# Altium integrated library PCB_Project.IntLib: 15 symbols
Pins are listed as number, name and electrical type; pins without a type are passive.

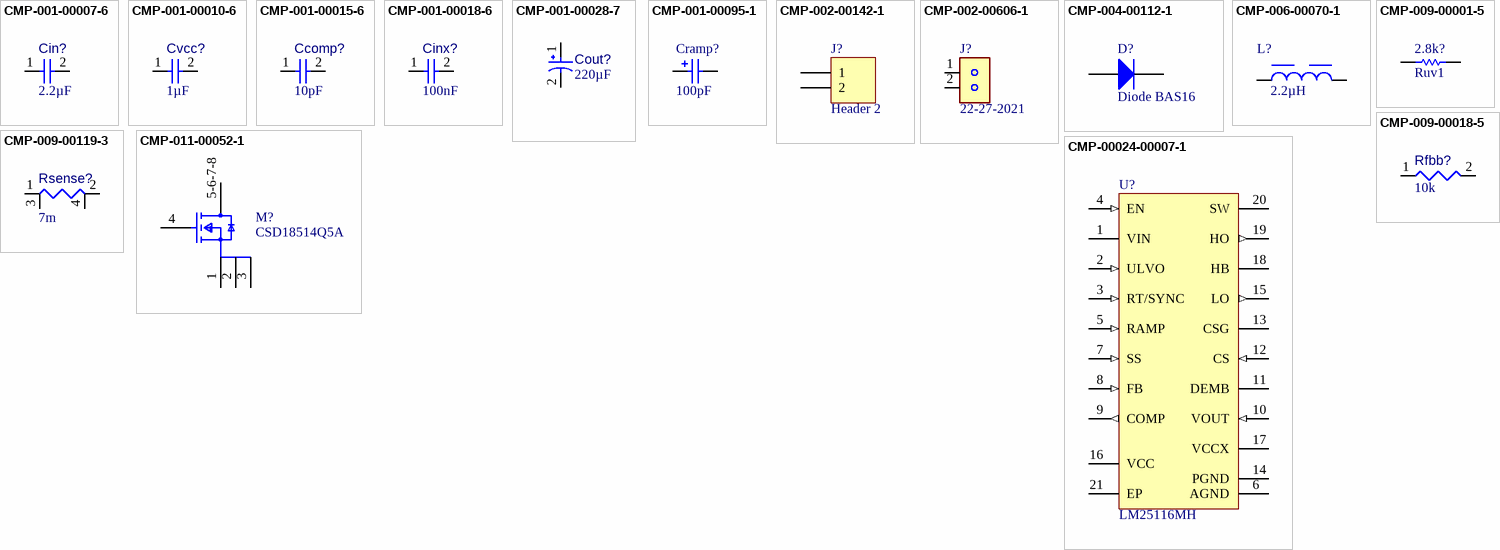
[diagram p0: symbols CMP-001-00007-6 to CMP-00024-00007-1]

## CMP-001-00007-6
designator Cin?, comment value 2.2µF  (hidden comment: Capacitor 1 uF +/- 10% 50 V 0805)
Chip Capacitor, 1 uF, +/- 10%, 50 V, 0805 (2012 Metric); Manufacturer: TDK; Manufacturer Part Number: C2012X7R1H105K125AB; Manufacturer: Murata; Manufacturer Part Number: GRM21BR71H105KA12L; Manufacturer: Kyocera / AVX; Manufacturer Part Number: 08055C105KAT2A; Capacitor Type: Ceramic; Voltage Rating: 50V; Min Operating Temperature: -55°C; RoHS Compliant: True; Mounting Technology: SM; Case/Package: 0805; Max Operating Temperature: 125°C; Tolerance: 10%; Pins: 2; Component Type: Capacitors
footprint CAPC2013X135X45NL10T25 (Chip Capacitor, 2-Leads, Body 2.10x1.35mm, IPC Medium Density)
footprint CAPC2013X135X45LL10T25 (Chip Capacitor, 2-Leads, Body 2.10x1.35mm, IPC High Density)
footprint CAPC2013X135X45ML10T25 (Chip Capacitor, 2-Leads, Body 2.10x1.35mm, IPC Low Density)
pins: 1, 2

## CMP-001-00010-6
designator Cvcc?, comment value 1µF  (hidden comment: Capacitor 1 uF +/- 10% 25 V 0805)
Chip Capacitor, 1 uF, +/-10%, 25 V, 0805 (2012 Metric); Manufacturer: Yageo Group; Manufacturer Part Number: CC0805KKX7R8BB105; Manufacturer: Kyocera / AVX; Manufacturer Part Number: 08053C105KAZ2A; Manufacturer: Murata; Manufacturer Part Number: GRM21BR71E105KA99L; Capacitor Type: Ceramic; Voltage Rating: 25V; RoHS Compliant: True; Pins: 2; Mounting Technology: SM; Max Operating Temperature: 125°C; Min Operating Temperature: -55°C; Tolerance: 10%; Case/Package: 0805; Component Type: Capacitors
footprint CAPC2013X145X50ML20T25 (Chip Capacitor, 2-Leads, Body 2.2x1.45mm, IPC Low Density)
footprint CAPC2013X145X50LL20T25 (Chip Capacitor, 2-Leads, Body 2.2x1.45mm, IPC High Density)
footprint CAPC2013X145X50NL20T25 (Chip Capacitor, 2-Leads, Body 2.2x1.45mm, IPC Medium Density)
simulation model C_Capacitor_Default (Model Description)
pins: 1, 2

## CMP-001-00015-6
designator Ccomp?, comment value 10pF  (hidden comment: Capacitor 10 uF +/- 10% 16 V 0805)
Chip Capacitor, 10 uF, +/- 10%, 16 V, 0805 (2012 Metric); Manufacturer: Yageo Group; Manufacturer Part Number: C0805C106K4PACTU; Manufacturer: KYOCERA AVX; Manufacturer Part Number: 0805YD106KAT2A; Manufacturer: Murata; Manufacturer Part Number: GRM21BR61C106KE15L; Voltage Rating: 16V; Capacitor Type: Ceramic; RoHS Compliant: True; Max Operating Temperature: 85°C; Min Operating Temperature: -55°C; Mounting Technology: SM; Tolerance: 10%; Case/Package: 0805; Pins: 2; Component Type: Capacitors
footprint CAPC2013X135X45NL10T25 (Chip Capacitor, 2-Leads, Body 2.10x1.35mm, IPC Medium Density)
footprint CAPC2013X135X45LL10T25 (Chip Capacitor, 2-Leads, Body 2.10x1.35mm, IPC High Density)
footprint CAPC2013X135X45ML10T25 (Chip Capacitor, 2-Leads, Body 2.10x1.35mm, IPC Low Density)
pins: 1, 2

## CMP-001-00018-6
designator Cinx?, comment value 100nF  (hidden comment: Capacitor 100 nF +/-10% 50 V 0805)
Chip Capacitor, 100 nF, +/- 10%, 50 V, 0805 (2012 Metric); Manufacturer: Yageo Group; Manufacturer Part Number: CC0805KRX7R9BB104; Manufacturer: Murata; Manufacturer Part Number: GRM21BR71H104KA01L; Capacitor Type: Ceramic; Voltage Rating: 50V; Pins: 2; Max Operating Temperature: 125°C; Min Operating Temperature: -55°C; Mounting Technology: SM; Case/Package: 0805; RoHS Compliant: True; Tolerance: 10%; Component Type: Capacitors
footprint CAPC2013X95X50LL10T25 (Chip Capacitor, 2-Leads, Body 2.10x1.35mm, IPC High Density)
footprint CAPC2013X95X50NL10T25 (Chip Capacitor, 2-Leads, Body 2.10x1.35mm, IPC Medium Density)
footprint CAPC2013X95X50ML10T25 (Chip Capacitor, 2-Leads, Body 2.10x1.35mm, IPC Low Density)
simulation model C_Capacitor_Default (Model Description)
pins: 1, 2

## CMP-001-00028-7
designator Cout?, comment value 220µF  (hidden comment: ECA-1HM221)
Aluminum Electrolytic Capacitor, 220 uF, +/- 20%, 50 V, -40 to 85 degC, 2-Pin THD, RoHS, Bulk; Manufacturer: Panasonic; Ripple Current (AC): 400mA; Voltage Rating: 50V; Case/Package: Radial; Packaging: Bulk; Package Quantity: 200; Min Operating Temperature: -40°C; Datasheet Version: Mar-16; Package Reference: CAPPR65-500-1250X1000X1350; Mounting Technology: TH; Ripple Current: 400mA; Pins: 2; Package Description: 2-Pin Radial Lead, Dia 10 mm, Body Length 12.5 mm; RoHS Compliant: True; Max Operating Temperature: 85°C; Lead Pitch: 5mm; Tolerance: 20%; Manufacturer URL: http://www.panasonic.com/; Diameter: 10mm; Capacitor Type: Electrolytic; Datasheet URL: http://industrial.panasonic.com/cdbs/www-data/pdf/RDF0000/DMF0000COL68.pdf; Manufacturer Part Number: ECA-1HM221; Component Type: Capacitors
footprint CAPPR65-500-1250X1000X1350 (THD, 2-Leads, Dia 10mm, Body Length 12.5mm)
simulation model C_Capacitor_Default (Model Description)
pins: 1, 2

## CMP-001-00095-1
designator Cramp?, comment value 100pF  (hidden comment: Cap Pol3)
Polarized Capacitor (Surface Mount); Signal Integrity: Cap Pol; Component Type: Standard; Case/Package: Chip Capacitor; Source: Miscellaneous Devices.SchLib; Publisher: Altium Limited; Published: 8-Jun-2000; PackageReference: C0805; LatestRevisionDate: 29-May-2009; Pins: 2; LatestRevisionNote: IPC-7351 Footprint Added.; Design Item ID: Cap Pol3; Component Type: Capacitors
simulation model CAP (Capacitor)
footprint C0805 (Chip Capacitor, Body 2.0x1.3mm, IPC High Density)
footprint 1812 (Chip Capacitor, Body 4.5x3.2mm, IPC High Density)
footprint 1825 (Chip Capacitor, Body 4.5x6.4mm, IPC High Density)
footprint 2220 (Chip Capacitor, Body 5.7x5.0mm, IPC High Density)
footprint C2225 (Chip Capacitor, Body 5.7x6.4mm, IPC High Density)
pins: 1, 2
1 alternate drawing of the same symbol

## CMP-002-00142-1
designator J?, comment Header 2
Header, 2-Pin; Signal Integrity: Connector; LatestRevisionDate: 17-Jul-2002; Component Type: Standard; LatestRevisionNote: Re-released for DXP Platform.; Design Item ID: Header 2; Pins: 2; Publisher: Altium Limited; Source: Miscellaneous Connectors.SchLib; Component Type: Connectors
footprint HDR1X2 (Connector; Header; 2 Position)
pins: 1, 2

## CMP-002-00606-1
designator J?, comment 22-27-2021
Connector Wire to Board Header 2 Position 2.54mm Solder Straight Thru-Hole Ba; Availability: Unavailable; Design Item ID: 22-27-2021; Case/Package: None; MP: 22-27-2021; Price: None; Pins: 2; Component Type: Standard; Value: *; Source: 22-27-2021.SchLib; Component Type: Connectors
footprint HDRV2W64P254_1X2_580X508X1170P
pins: 1, 2

## CMP-004-00112-1
designator D?, comment Diode BAS16
Silicon Switching Diode for High-Speed Switching; Note: Pin 2 is not connected and not drawn.; LatestRevisionNote: IPC-7351 Footprint Added.; ComponentLink1Description: Manufacturer Link; LatestRevisionDate: 29-May-2009; Design Item ID: Diode BAS16; Published: 21-Mar-2003; Component Type: Standard; Source: Miscellaneous Devices.SchLib; Publisher: Altium Limited; Case/Package: 3-Pin SOT-23 Package 0.95 mm Pitch, 2.5 mm Lead Span; ComponentLink1URL: http://www.infineon.com/; PackageVersion: Sep-2001; PackageReference: SOT-23; ComponentLink2Description: Datasheet; Pins: 2; DatasheetVersion: Oct-1999; ComponentLink2URL: http://www.infineon.com/upload/Document/cmc_upload/documents/012/5331/bas16series.pdf; Component Type: Diodes
simulation model BAS16 (SUBCKT)
footprint SOT-23_N (SOT23, 3-Leads, Body 2.9x1.3mm, Pitch 0.95mm, Lead Span 2.5mm, IPC Medium Density)
footprint SOT-23_L (SOT23, 3-Leads, Body 2.9x1.3mm, Pitch 0.95mm, Lead Span 2.5mm, IPC High Density)
footprint SOT-23_M (SOT23, 3-Leads, Body 2.9x1.3mm, Pitch 0.95mm, Lead Span 2.5mm, IPC Low Density)
pins: 1 A, 3 K

## CMP-006-00070-1
designator L?, comment Inductance: 2.2µH  (hidden comment: 74438333022)
WE-MAPI SMT Power Inductor, size 3010, 2.2µH, 2.35A, 50MHz; Manufacturer: Wurth Elektronik; Saturation Current @ 30%: 4.85A; DC Resistance: 150mO; Operating Voltage (DC): 80V; Component Type: Standard; Design Item ID: 74438333022; Height: 1mm; Category: Power Inductors; Pins: 2; ComponentLink2URL: https://www.we-online.com/redexpert/spec/74438333022?ad; ComponentLink1URL: https://www.we-online.com/redexpert/article/74438333022?ad; Mount: Surface Mount; Max Operating Temperature: 125°C; ComponentLink2Description: Datasheet Link; Case/Package: 3010; Packaging: Tape and Reel; Min Operating Temperature: -40°C; ComponentLink1Description: Website Link; Source: WE-MAPI.SchLib; Performance Rated Current: 2.35A; Manufacturer Part Number: 74438333022; Self Resonant Frequency: 50MHz; Length: 3mm; Width: 3mm; Match Code: WE-MAPI; Component Type: Inductors
simulation model 3010_74438333022_2.2u
footprint WE-MAPI_3010 (SMT Shielded Power Inductor, body 3.00 x 3.00 mm)
pins: 1, 2

## CMP-009-00001-5
designator 2.8k?, comment value Ruv1  (hidden comment: Resistor 0R +/- 1% 0805 125 mW)
Chip Resistor, 0 Ohm, +/- 1%, 125 mW, -55 to 155 degC, 0805 (2012 Metric); Manufacturer: Vishay; Manufacturer Part Number: CRCW08050000Z0EA; Voltage Rating: 150V; Power: 125mW; Mounting Technology: SM; Max Operating Temperature: 155°C; Case/Package: 0805; RoHS Compliant: True; Pins: 2; Min Operating Temperature: -55°C; Tolerance: 1%; Component Type: Resistors
footprint RESC2013X50X35ML15T15 (Chip Resistor, 2-Leads, Body 2.2x1.4mm, IPC Low Density)
footprint RESC2013X50X35NL15T15 (Chip Resistor, 2-Leads, Body 2.2x1.4mm, IPC Medium Density)
footprint RESC2013X50X35LL15T15 (Chip Resistor, 2-Leads, Body 2.2x1.4mm, IPC High Density)
pins: 1, 2

## CMP-009-00018-5
designator Rfbb?, comment value 10k  (hidden comment: Resistor 10k +/-1% 0805 125 mW)
Chip Resistor, 10 KOhm, +/- 1%, 125 mW, -55 to 155 degC, 0805 (2012 Metric); Manufacturer: Yageo Group; Manufacturer Part Number: RC0805FR-0710KL; Manufacturer: Vishay; Manufacturer Part Number: CRCW080510K0FKEA; Manufacturer: Panasonic; Manufacturer Part Number: ERJ-6ENF1002V; Power: 125mW; Voltage Rating: 150V; Tolerance: 1%; Pins: 2; Min Operating Temperature: -55°C; Case/Package: 0805; Max Operating Temperature: 155°C; RoHS Compliant: True; Mounting Technology: SM; Component Type: Resistors
footprint RESC2013X50X35ML15T15 (Chip Resistor, 2-Leads, Body 2.2x1.4mm, IPC Low Density)
footprint RESC2013X50X35NL15T15 (Chip Resistor, 2-Leads, Body 2.2x1.4mm, IPC Medium Density)
footprint RESC2013X50X35LL15T15 (Chip Resistor, 2-Leads, Body 2.2x1.4mm, IPC High Density)
simulation model R_Resistor_Default (Model Description)
pins: 1, 2
1 alternate drawing of the same symbol

## CMP-009-00119-3
designator Rsense?, comment value 7m  (hidden comment: Resistor 7mR +/-1% 1206 63 mW)
Chip Resistor, 0,007 Ohms, +/-1%, 63 mW, -55 to 155 degC, 1206; Manufacturer: Susumu; Manufacturer Part Number: KRL3216T4A-M-R007-F-T1; Tolerance: 1%; Max Operating Temperature: 155°C; Min Operating Temperature: -55°C; Pins: 4; Case/Package: 1206; Component Type: Resistors
footprint SUSUMU-3216T4A (SMD, 4-Leads, Body 3.2x1.6mm)
simulation model R_Resistor_Default (Model Description)
pins: 1 I1, 2 I2, 3 E1, 4 E2

## CMP-011-00052-1
designator M?, comment CSD18514Q5A
40-V, N channel NexFET™ power MOSFET, single SON 5 mm x 6 mm, 4.9 mOhm 8-VSONP -55 to 150; Manufacturer: Texas Instruments; Pins: 8; Max Operating Temperature: 150°C; Min Operating Temperature: -55°C; Manufacturer Part Number: CSD18514Q5A; Component Type: Switches
footprint FP-DQJ0008A-MFG
simulation model NMOSFET_Level1 (Model Description)
pins: 1 S, 2 S, 3 S, 4 G, 5-6-7-8 D

## CMP-00024-00007-1
designator U?, comment LM25116MH
6-42V Wide Vin, Current Mode Synchronous Buck Controller 20-HTSSOP -40 to 125; Manufacturer: Texas Instruments; Min Operating Temperature: -40°C; Case/Package: HTSSOP EP; Mounting Technology: Surface Mount; Max Operating Temperature: 125°C; Pins: 20; Manufacturer Part Number: LM25116MH; Component Type: Drivers
footprint PWP0020A_N (SOP, 20-Leads, Body 6.6x4.5mm, Pitch 0.65mm, Thermal Pad 4.2x3mm, IPC Medium Density)
footprint PWP0020A_L (SOP, 20-Leads, Body 6.6x4.5mm, Pitch 0.65mm, Thermal Pad 4.2x3mm, IPC High Density)
footprint PWP0020A_M (SOP, 20-Leads, Body 6.6x4.5mm, Pitch 0.65mm, Thermal Pad 4.2x3mm, IPC Low Density)
simulation model Cout (Model Description)
pins: 1 VIN (power), 2 ULVO (in), 3 RT/SYNC (in), 4 EN (in), 5 RAMP (in), 6 AGND (power), 7 SS (in), 8 FB (in), 9 COMP (out), 10 VOUT (in), 11 DEMB, 12 CS (in), 13 CSG, 14 PGND (power), 15 LO (out), 16 VCC (power), 17 VCCX (power), 18 HB, 19 HO (out), 20 SW (power), 21 EP (power)